# EAGLE library part RECEPTACLE-DF40-30-1.5MM (library connectors)
DF0 Series●0.4mm Pitch, 1.5 to 4.0mm Height, Board-to-Board and Board-to-FPC Connectors Receptacle (Stacking height 1.5mm, with shield) Digi-Key Part Number H11623CT-ND Manufacturer Hirose Electric Co Ltd </en/supplier-centers/h/hirose> Manufacturer Part Number DF40C-30DS-0.4V(51) Description CONN RCPT 30POS 0.4MM SMD GOLD Lead Free Status / RoHS Status Lead free / RoHS Compliant Moisture Sensitivity Level (MSL) 1 (Unlimited) Manufacturer Standard Lead Time 8 Weeks
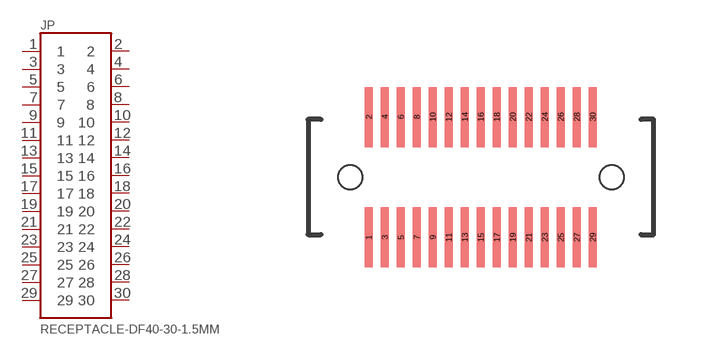
[diagram p2: symbol with the pads of RECEPTACLE-DF40-30-1.5MM; footprint RECEPTACLE-DF40-30-1.5MM]

Designator prefix JP

## RECEPTACLE-DF40-30-1.5MM (DIGIKEY: H11623CT-ND)  [RECEPTACLE-DF40-30-1.5MM]
1  1
2  2
3  3
4  4
5  5
6  6
7  7
8  8
9  9
10  10
11  11
12  12
13  13
14  14
15  15
16  16
17  17
18  18
19  19
20  20
21  21
22  22
23  23
24  24
25  25
26  26
27  27
28  28
29  29
30  30

## Footprint RECEPTACLE-DF40-30-1.5MM (pad centres in mm)
smd 0.2 x 1.5: 1 -2.8,-1.51; 2 -2.8,1.5; 3 -2.4,-1.51; 4 -2.4,1.5; 5 -2,-1.51; 6 -2,1.5; 7 -1.6,-1.51; 8 -1.6,1.5; 9 -1.2,-1.51; 10 -1.2,1.5; 11 -0.8,-1.51; 12 -0.8,1.5; 13 -0.4,-1.51; 14 -0.4,1.5; 15 0,-1.51; 16 0,1.5; 17 0.4,-1.51; 18 0.4,1.5; 19 0.8,-1.51; 20 0.8,1.5; 21 1.2,-1.51; 22 1.2,1.5; 23 1.6,-1.51; 24 1.6,1.5; 25 2,-1.51; 26 2,1.5; 27 2.4,-1.51; 28 2.4,1.5; 29 2.8,-1.51; 30 2.8,1.5
hole 0.6 at -3.27,0
hole 0.6 at 3.27,0